# Altium footprint library AHT20.PcbLib: 1 footprints
Each footprint in its own frame and in the unit in brackets; x right, y up, seen from the top. Pads: shape width x height; smd on the part's side, far side on the other; paste and mask are expansions set on the pad; w line width, h text height; cw(c..) or ccw(c..) is an arc to the next point about the centre after c.
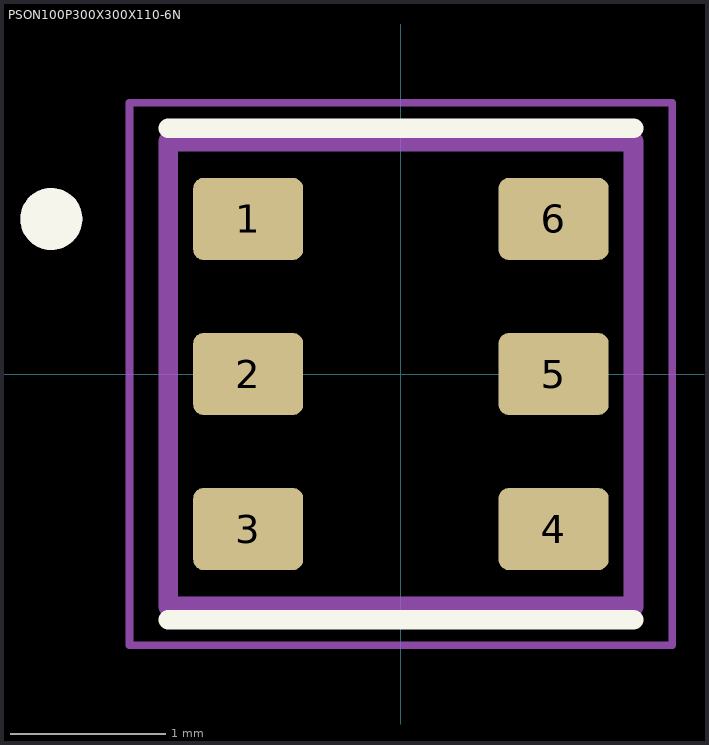
[diagram p0: the footprint, top view; thin cyan lines are the x and y axes]

## PSON100P300X300X110-6N [mm]
pads (6):
  rrect25% 0.71x0.53 smd: 1(-0.985,1) 2(-0.985,0) 3(-0.985,-1) 4(0.985,-1) 5(0.985,0) 6(0.985,1)
Top Overlay:
  circle w0.2: c-2.255,1 r0.1
  lines w0.127: -1.5,-1.585 1.5,-1.585 ; -1.5,1.585 1.5,1.585
Mechanical 13:
  circle w0.2: c-2.255,1 r0.1
  lines w0.127: -1.5,-1.5 -1.5,1.5 1.5,1.5 1.5,-1.5 -1.5,-1.5
Mechanical 15:
  lines w0.05: -1.75,-1.75 1.75,-1.75 1.75,1.75 -1.75,1.75 -1.75,-1.75